# EAGLE library part H08 (library Library)
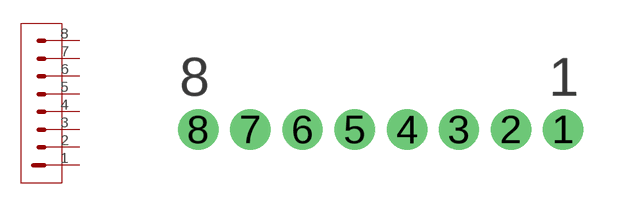
[diagram p4: symbol with the pads of H08; footprint H08]

Designator prefix -

## H08  [H08]
1  1
2  2
3  3
4  4
5  5
6  6
7  7
8  8

## Footprint H08 (pad centres in mm)
drill 0.55: 1 4.841,0; 2 3.476,0; 3 2.111,0; 4 0.762,0; 5 -0.619,0; 6 -1.984,0; 7 -3.349,0; 8 -4.714,0